# Altium schematic symbol library LSMD PCB.SCHLIB: 112 symbols (part 2 of 2)
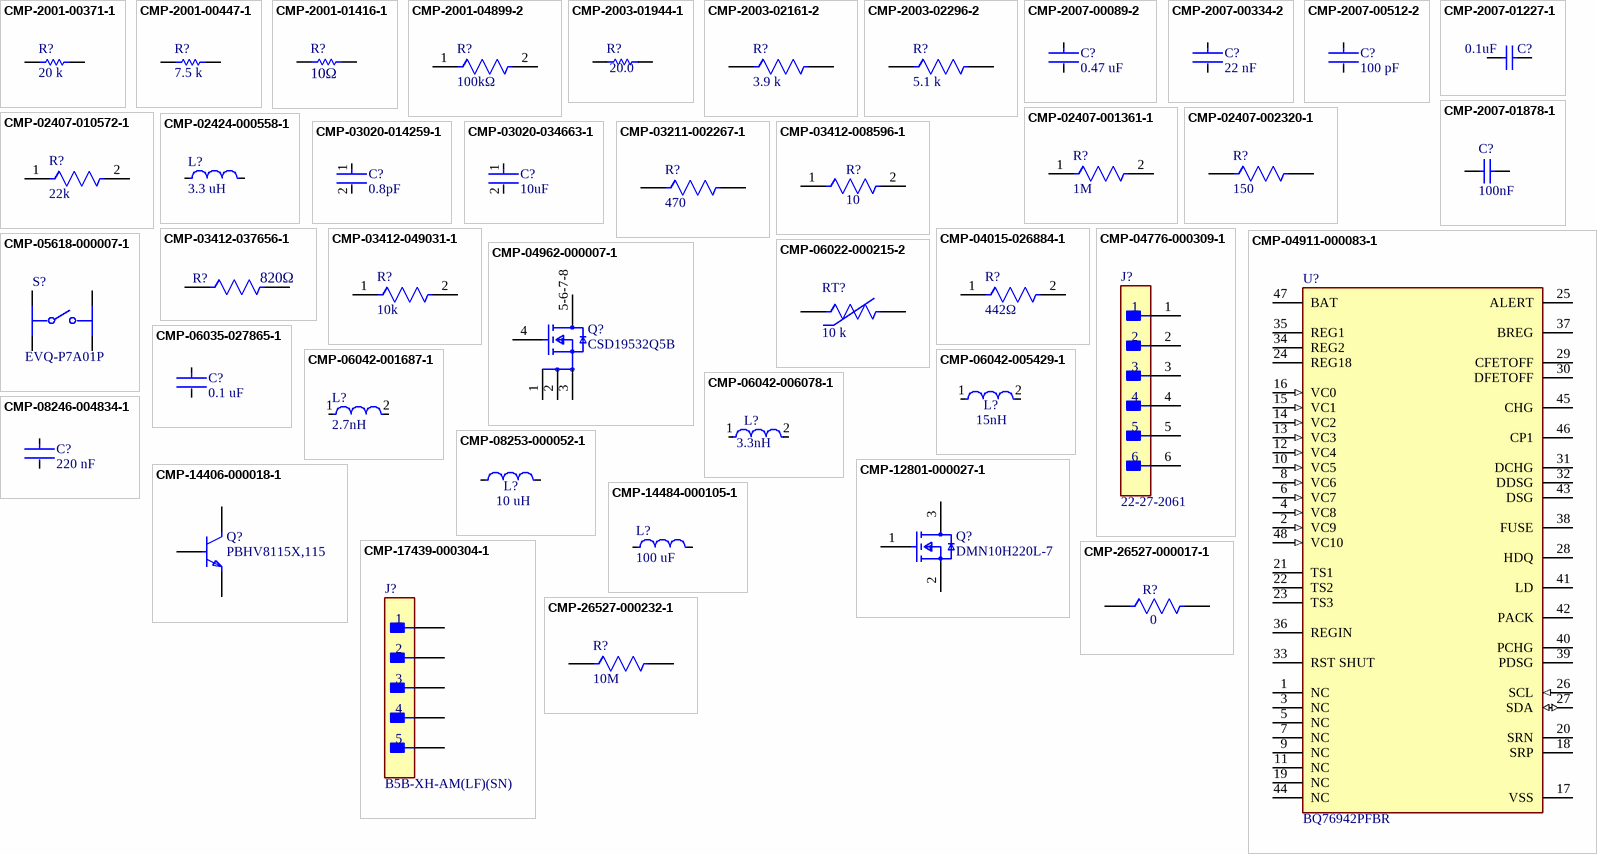
[diagram p3: symbols CMP-2001-00371-1 to CMP-26527-000232-1]

## CMP-05618-000007-1
designator S?, comment EVQ-P7A01P
SWITCH TACTILE SPST-NO 0.05A 12V; Manufacturer: Panasonic; Operating Force: 2.2N; Contact Resistance: 500mΩ; Contact Current Rating: 50mA; Electromechanical Life: 100000Cycles; Device Class L2: Switches; Lead Free: Yes; Mount: Surface Mount; Digikey Description: SWITCH TACTILE SPST-NO 0.05A 12V; Temperature Range High: +70°C; Device Class L3: Tactile Switches; Package: EVQ-P7A01P; Voltage Rating Dc: 12V; Octopart: https://octopart.com/evq-p7a01p-panasonic-29917075; ComponentLink2URL: https://industrial.panasonic.com/cdbs/www-data/pdf/ATK0000/ATK0000C378.pdf; Automotive: No; Device Class L1: Electromechanical; Mouser Description: SWITCH TACTILE SPST-NO 0.05A 12V; Temperature: -20°C to +70°C; Manufacturer Part Number: EVQ-P7A01P; ComponentLink2Description: Datasheet; RoHS: TRUE; Category: Switch; Temperature Range Low: -20°C; Throw Configuration: SPST-NO; Height: 1.55mm
footprint FP-EVQ-P7A01P-MFG
pins: 1, 1', 2, 2'

## CMP-06022-000215-2
designator RT?, comment 10 k
NTC Thermistor for Temperature Sensor, Automotive, 0402, 10kΩ, 1%, 0.1mA, 5V
footprint FP-NCP15-NCU15-0_05-IPC_A
footprint FP-NCP15-NCU15-0_05-MFG
footprint FP-NCP15-NCU15-0_05-IPC_C
footprint FP-NCP15-NCU15-0_05-IPC_B
pins: 1, 2

## CMP-06035-027865-1
designator C?, comment 0.1 uF
Multilayer Ceramic Capacitors MLCC - SMD/SMT 0805 0.1uF 10%, 100VDC,  X7R 15%
footprint FP-GCJ21B-0_3-MFG
footprint FP-GCJ21B-0_3-IPC_A
footprint FP-GCJ21B-0_3-IPC_B
footprint FP-GCJ21B-0_3-IPC_C
pins: 1, 2

## CMP-06042-001687-1
designator L?, comment 2.7nH
Wire Wound RF Inductor 2.7nH ±0.5nH 1900mA 0.02Ω 0805 (2015); Max DC Current: 1.9A; Test Frequency: 100MHz; DC Resistance (DCR): 20mR; Core Material: Non-Magnetic; Shielding: Unshielded; Self Resonant Frequency: 6GHz; Q Factor: 20; Min Operating Temperature: -40°C; Mount: Surface Mount; DC Current: 1.9A; Packaging: Tape and Reel; Case Code (Metric): 2012; Weight: 0.000317oz; Height: 1.7mm; Case/Package: 0805; Depth: 1.7mm; Current Rating: 1.9A; Length: 2mm; Radiation Hardening: No; Width: 0.059inch; Max Operating Temperature: 85°C; Case Code (Imperial): 0805; Height - Seated (Max): 0.07inch; Termination: SMD/SMT; Package Quantity: 2000; Inductance: 2.7nH; Resistor Type: Wirewound; Military Standard: Not
footprint FP-LQW2BHN_03-MFG
pins: 1, 2

## CMP-06042-005429-1
designator L?, comment 15nH
Wire Wound RF Inductor 15nH ±10% 1000mA 0.04Ω 0805 (2015); Current Rating: 1A; Q Factor: 40; Test Frequency: 100MHz; Core Material: Non-Magnetic; Self Resonant Frequency: 3.1GHz; Shielding: Unshielded; DC Resistance (DCR): 40mR; Mount: Surface Mount; Depth: 1.7mm; Case Code (Metric): 2015; Height - Seated (Max): 0.07inch; Max Operating Temperature: 85°C; Max DC Current: 1A; Weight: 0.000317oz; Length: 2mm; Radiation Hardening: No; DC Current: 1A; Military Standard: Not; Inductance: 15nH; Tolerance: 10%; Termination: SMD/SMT; Case/Package: 0805; Case Code (Imperial): 0805; Width: 0.059inch; Resistor Type: Wirewound; Height: 1.7mm; Min Operating Temperature: -40°C; Packaging: Tape and Reel; Package Quantity: 2000
footprint FP-LQW2BHN_03-MFG
pins: 1, 2

## CMP-06042-006078-1
designator L?, comment 3.3nH
Wire Wound RF Inductor 3.3nH ±0.5nH 1700mA 0.02Ω 0805 (2015); Test Frequency: 100MHz; DC Current: 1.7A; Shielding: Unshielded; Self Resonant Frequency: 6GHz; Core Material: Non-Magnetic; DC Resistance (DCR): 20mR; Q Factor: 10; Case Code (Metric): 2015; Max Operating Temperature: 85°C; Packaging: Tape and Reel; Radiation Hardening: No; Max DC Current: 1.7A; Height: 1.7mm; Resistor Type: Wirewound; Package Quantity: 2000; Case Code (Imperial): 0805; Military Standard: Not; Min Operating Temperature: -40°C; Termination: SMD/SMT; Length: 0.079inch; Current Rating: 1.7A; Inductance: 3.3nH; Case/Package: 0805; Width: 0.059inch; Weight: 0.000317oz; Height - Seated (Max): 0.07inch; Depth: 1.7mm; Mount: Surface Mount
footprint FP-LQW2BHN_03-MFG
pins: 1, 2

## CMP-08246-004834-1
designator C?, comment 220 nF
Multilayer Ceramic Capacitors 220nF ±10% 50V X7R SMD 0805; Dielectric: X7R; Weight: 0.000194oz; Termination: SMD/SMT; Resistor Type: Ceramic; Case Code (Metric): 2012; Number of Pins: 2; Capacitance: 220nF; REACH SVHC: No SVHC; Dielectric Material: Ceramic; Min Operating Temperature: -55°C; Depth: 1.25mm; Max Operating Temperature: 125°C; Voltage: 50V; Case Code (Imperial): 0805; Thickness: 0.057inch; Mount: Surface Mount; Voltage Rating (DC): 50V; Length: 2mm; Tolerance: 10%; Packaging: Tape and Reel; Package Quantity: 1; Case/Package: 0805; Radiation Hardening: No; Voltage Rating: 50V; Height: 1.25mm; Width: 0.049inch; Series: C; Construction: Flat; RoHS Compliant: Yes; Lead Free: Lead Free
footprint FP-C2012-125-0_2-IPC_C
footprint FP-C2012-125-0_2-IPC_B
footprint FP-C2012-125-0_2-MFG
footprint FP-C2012-125-0_2-IPC_A
pins: 1, 2

## CMP-08253-000052-1
designator L?, comment 10 uH
Shielded Multilayer Inductor 10uH ±20% 500mA 390mΩ SMD 0805; Self Resonant Frequency: 50MHz; Core Material: Ferrite; Test Frequency: 2MHz; Saturation Current: 110mA; DC Resistance (DCR): 390mR; Current Rating: 500mA; Case Code (Metric): 2012; Package Quantity: 1; RoHS Compliant: Yes; Tolerance: 20%; Height - Seated (Max): 0.057inch; Case/Package: 0805; Width: 0.049inch; Mount: Surface Mount; Max Operating Temperature: 125°C; Inductance: 10uH; Packaging: Tape and Reel; Length: 0.079inch; Min Operating Temperature: -55°C; Case Code (Imperial): 0805; Shielding: Shielded
footprint FP-MLZ2012-1_25-MFG
footprint FP-MLZ2012-1_25-IPC_C
footprint FP-MLZ2012-1_25-IPC_B
footprint FP-MLZ2012-1_25-IPC_A
pins: 1, 2

## CMP-12801-000027-1
designator Q?, comment DMN10H220L-7
MOSFET N-CH 100V 1.6A SOT-23; Manufacturer: Diodes Inc.; Typ Forward Diode Voltage: 0.7V; Max Junction Temp: +150°C; Reverse Recovery Charge: 9.8nC; Gate Charge At Vgs: 8.3nC @ 10V; Turn Off Delay Time: 7.9ns; Depletion Mode: False; Power Dissipation: 1.3W; Rthja Max: 177°C/W; Reverse Recovery Time: 17ns; Gate To Source Voltage: 16V; Drain To Source Resistance: 250mΩ; Threshold Vgs Max: 2.5V; Turn On Delay Time: 6.8ns; Threshold Vgs Min: 1V; Pulse Drain Current: 8A; Number Of Channels: 1; Max Forward Diode Voltage: 1.2V; Standoff Height: 0.013mm; Input Capacitace At Vds: 401pF @ 25V; Continuous Drain Current: 1.4A; Manufacturer Part Number: DMN10H220L-7; Device Class L2: Transistors; Automotive: No; Device Class L3: MOSFETs; Drain To Source Breakdown Voltage: 100V; Footprint Url: https://www.diodes.com/assets/Package-Files/SOT23.pdf; Package: SOT23; Lead Free: Yes; Temperature: -55°C to +150°C; Drain To Source Voltage: 100V; Device Class L1: Discrete Semiconductors; ComponentLink2URL: https://www.diodes.com/assets/Datasheets/DMN10H220L.pdf; Temperature Range High: +150°C; Temperature Range Low: -55°C; Category: Trans; Mouser Description: DMN10H220L Series 100 V 250 mOhm N-Channel Enhancement Mode Mosfet - SOT-23; RoHS: TRUE; ComponentLink2Description: Datasheet; Height: 1.1mm; Digikey Description: MOSFET N-CH 100V 1.6A SOT-23; Octopart: https://octopart.com/dmn10h220l-7-diodes+inc.-38898610; Number Of N Channels: 1
footprint FP-SOT23-MFG
footprint FP-SOT23-IPC_C
footprint FP-SOT23-IPC_B
footprint FP-SOT23-IPC_A
pins: 1 G, 2 S, 3 D

## CMP-14406-000018-1
designator Q?, comment PBHV8115X,115
TRANS NPN 150V 1A SOT89; Manufacturer: Nexperia; Number Of Npn: 1; Rise Time Tr: 565ns; Delay Time Td: 7ns; Rthja Max: 240K/W; Emitter Base Voltage: 6V; Hfe Testvce: 10V; Collector Emitter Saturation Voltage: 33mV; Hfe Min: 10; Max Junction Temp: +150°C; Gain Bandwidth Product: 30MHz; Automotive Grade: Grade 0; Power Dissipation: 0.52W; Collector Base Voltage: 400V; Fall Time Tf: 700ns; Category: Trans; Lead Free: Yes; Number Of Elements: 1; Ambient Temperature Range Low: -55°C; Height: 1.6mm; Temperature: to +150°C; Max Collector Current: 1A; Manufacturer Part Number: PBHV8115X,115; Device Class L3: BJTs; ComponentLink2URL: https://assets.nexperia.com/documents/data-sheet/PBHV8115X.pdf; Collector Emitter Voltage: 150V; Device Class L1: Discrete Semiconductors; Package: SOT89; Storage Time Ts: 1530ns; Ambient Temperature Range High: +150°C; Digikey Description: TRANS NPN 150V 1A SOT89; ComponentLink2Description: Datasheet; Footprint Url: https://assets.nexperia.com/documents/outline-drawing/SOT89.pdf; Device Class L2: Transistors; RoHS: TRUE; Automotive: Yes; Temperature Range High: +150°C; Octopart: https://octopart.com/pbhv8115x%2C115-nexperia-78740688; Hfe Testic: 1A
footprint FP-SOT89-MFG
pins: 1 E, 2 C, 3 B

## CMP-14484-000105-1
designator L?, comment 100 uF
SMD Inductors 100uH ±10% 0.34A 1.82Ω 1210; Shielding: Unshielded; Max DC Current: 340mA; Saturation Current: 270mA; Self Resonant Frequency: 6MHz; Test Frequency: 100kHz; DC Resistance (DCR): 1.82R; Core Material: Ferrite; Width: 0.098inch; Tolerance: 10%; Max Operating Temperature: 105°C; Height - Seated (Max): 0.106inch; Inductance Tolerance: 10%; Height: 2.5mm; Case/Package: 1210; Min Operating Temperature: -40°C; Radiation Hardening: No; Inductance: 100uH; DC Current: 340mA; Current Rating: 340mA; Halogen Free: Halogen Free; Package Quantity: 1; RoHS Compliant: Yes; Case Code (Imperial): 1210; Packaging: Tape and Reel; Termination: SMD/SMT; Series: CB; Length: 0.126inch; Resistor Type: Wirewound; Mount: Surface Mount; Military Standard: Not; Depth: 2.7mm; Lead Free: Lead Free; Case Code (Metric): 3225
footprint FP-CB3225-IPC_A
footprint FP-CB3225-MFG
footprint FP-CB3225-IPC_B
footprint FP-CB3225-IPC_C
pins: 1, 2

## CMP-17439-000304-1
designator J?, comment B5B-XH-AM(LF)(SN)
CONN HEADER VERT 5POS 2.5MM; Mated Stacking Heights: 9.8mm; Voltage Rating: 250V; Max Current Rating: 3A; Number of Positions: 5; Contact Resistance: 20mR; Depth: 5.75mm; Connector Type: Header; Color: Green; Insulation Material: Nylon; Contact Plating: Copper; Length: 14.9mm; Fastening Type: Detent; Contact Material: Brass; Number of Rows: 1; Contact Type: Male Pin; Housing Material: Polyamide; Housing Color: White; Lead Free: Lead Free; Max Voltage Rating (AC): 250V; Mount: Through Hole; Contact Shape: Square; Min Operating Temperature: -25°C; Packaging: Bulk; Orientation: Straight; Insulation Color: Natural; Series: XH; Flammability Rating: UL94 V-0; Contact Finish - Mating: TIN; Max Operating Temperature: 85°C; Termination: Solder; Pitch: 2.5mm
footprint FP-B5B-XH-AM_LF_SN-MFG
pins: 1, 2, 3, 4, 5

## CMP-26527-000017-1
designator R?, comment 0
RES 0 OHM JUMPER 1/8W 0805; Power Rating: 125mW; Resistance: 0mR; Depth: 1.25mm; Length: 2mm; Military Standard: Not; Width: 0.049inch; Case Code (Imperial): 0805; Number of Terminations: 2; Mount: Surface Mount; Contact Plating: Tin; Height: 0.026inch; Case/Package: 0805; Min Operating Temperature: -55°C; Composition: Thick Film; Max Operating Temperature: 155°C; Packaging: Tape and Reel; Features: Automotive AEC-Q200; Max Power Dissipation: 125mW; Radiation Hardening: No; Lead Free: Lead Free; Case Code (Metric): 2012
footprint FP-RMCF0805-MFG
footprint FP-RMCF0805-IPC_C
footprint FP-RMCF0805-IPC_B
footprint FP-RMCF0805-IPC_A
pins: 1, 2

## CMP-26527-000232-1
designator R?, comment 10M
10MΩ ±5% 0.125W 0805 Thick Film Chip Resistor AEC-Q200 compliant; Power Rating: 125mW; Temperature Coefficient: 200ppm/°C; Resistance: 10MR; Size Code: 0805; Resistor Type: Thick Film; RoHS Compliant: Yes; Max Operating Temperature: 155°C; Width: 0.049inch; Case/Package: 0805; Military Standard: Not; Max Power Dissipation: 125mW; Length: 2mm; Min Operating Temperature: -55°C; Tolerance: 5%; Height: 0.026inch; Depth: 1.25mm; Construction: Rectangular; Mount: Surface Mount; Radiation Hardening: No; Contact Plating: Tin; Case Code (Metric): 2012; Features: Automotive AEC-Q200; Case Code (Imperial): 0805; Packaging: Tape and Reel; Number of Terminations: 2; Lead Free: Lead Free; Series: RMCF
footprint FP-RMCF0805-IPC_A
footprint FP-RMCF0805-IPC_C
footprint FP-RMCF0805-MFG
footprint FP-RMCF0805-IPC_B
pins: 1, 2

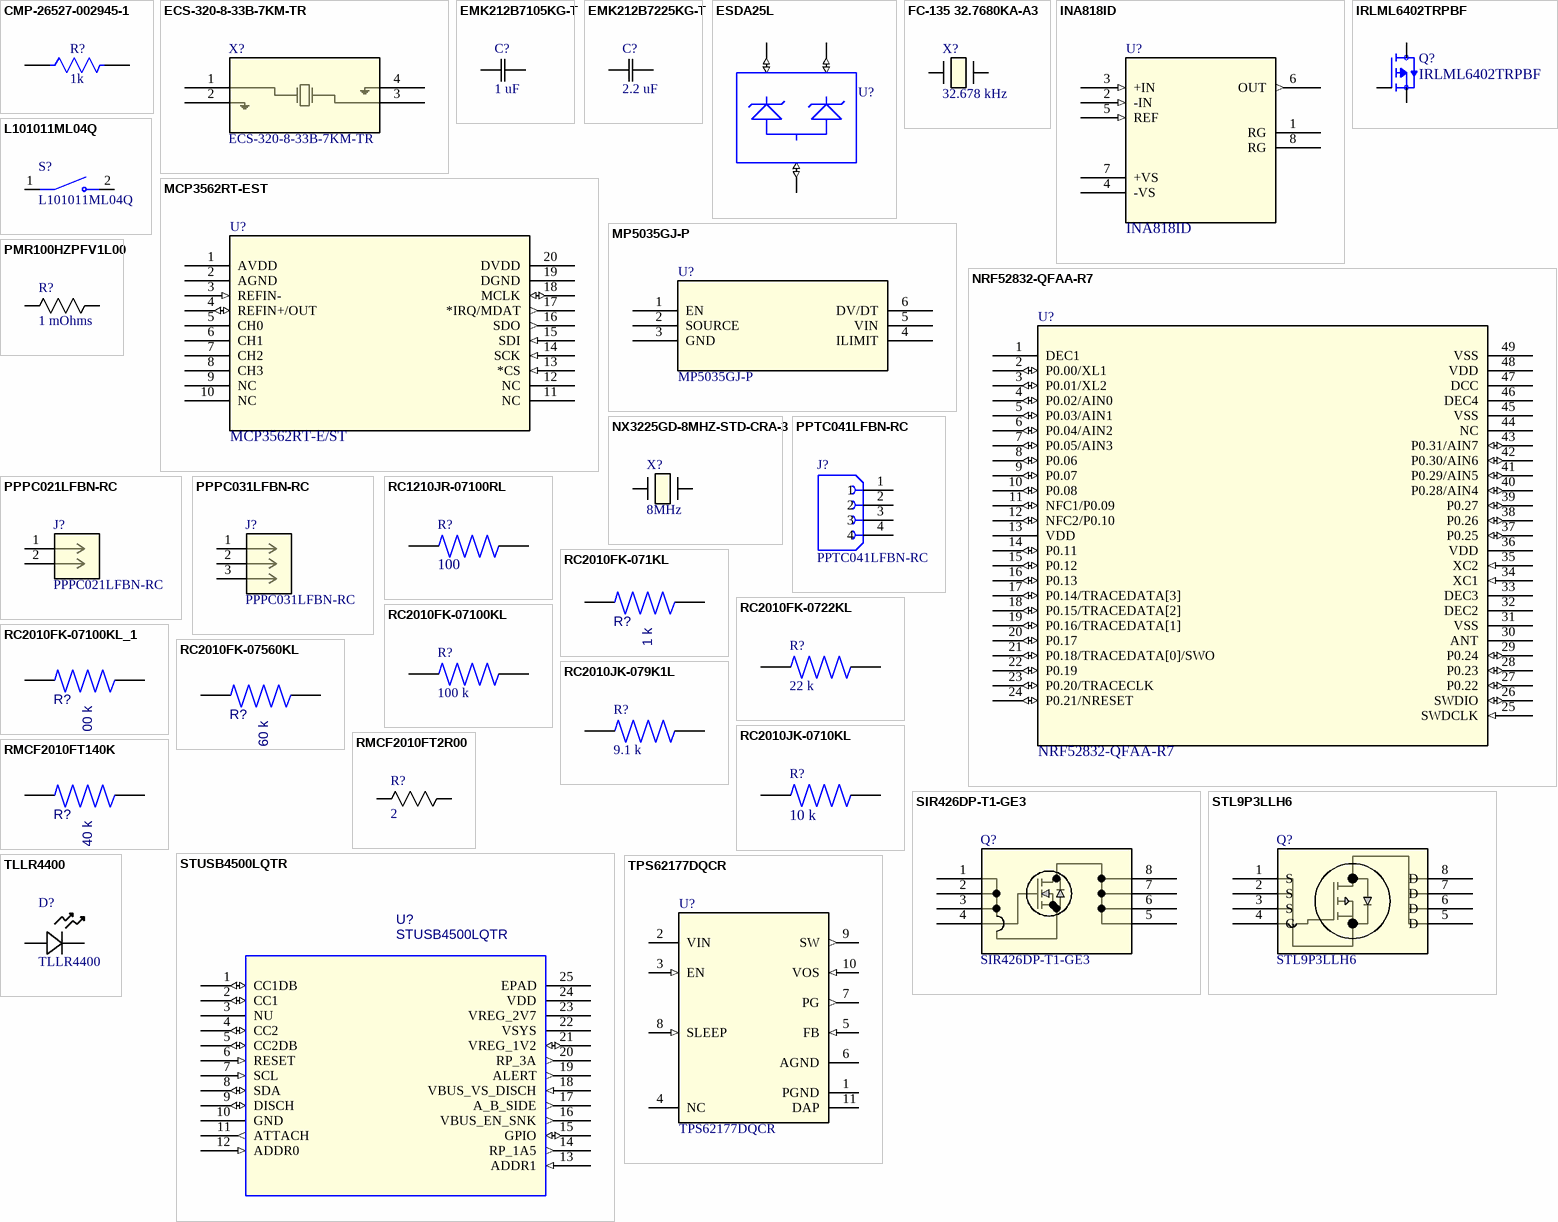
[diagram p2: symbols CMP-26527-002945-1 to TPS62177DQCR]

## CMP-26527-002945-1
designator R?, comment 1k
1kΩ ±1% 0.125W 0805 Thick Film Chip Resistor AEC-Q200 compliant; Resistance: 1kR; Max Power Dissipation: 125mW; Temperature Coefficient: 100ppm/°C; Series: RMCF; Packaging: Tape and Reel; Depth: 1.25mm; Tolerance: 1%; Contact Plating: Tin; Height: 0.026inch; Length: 2mm; Resistor Type: Thick Film; Lead Free: Lead Free; Width: 0.049inch; Military Standard: Not; RoHS Compliant: Yes; Case/Package: 0805; Min Operating Temperature: -55°C; Mount: Surface Mount; Max Operating Temperature: 155°C; Construction: Rectangular; Features: Automotive AEC-Q200; Number of Terminations: 2; Radiation Hardening: No
footprint FP-RMCF0805-MFG
footprint FP-RMCF0805-IPC_A
footprint FP-RMCF0805-IPC_C
footprint FP-RMCF0805-IPC_B
pins: 1, 2

## ECS-320-8-33B-7KM-TR
designator X?
No Description Available; Manufacturer_Name: ECS International; Copyright: Copyright (C) 2026 Ultra Librarian. All rights reserved.; Manufacturer_Part_Number: ECS-320-8-33B-7KM-TR; RefDes: RefDes; Type: Type; Supplier 1: Avnet; Supplier Part Number 1: ECS-320-8-33B-7KM-TR
footprint ECS-33B_ECS
pins: 1, 2, 3, 4

## EMK212B7105KG-T
designator C?, comment 1 uF
No Description Available; Manufacturer_Name: TAIYO YUDEN; Manufacturer_Part_Number: EMK212B7105KG-T; Copyright: Copyright (C) 2026 Ultra Librarian. All rights reserved.; Supplier 1: DigiKey; Supplier Part Number 1: 587-1283-1-ND
footprint cap_EMK212B7105KG-T_TAY
footprint CAPC2012X135N
pins: 1, 2

## EMK212B7225KG-T
designator C?, comment 2.2 uF
Description; Manufacturer_Name: TAIYO YUDEN; Manufacturer_Part_Number: EMK212B7225KG-T; Copyright: Copyright (C) 2025 Ultra Librarian. All rights reserved.; Supplier 1: Future Electronics; Supplier Part Number 1: 8043977
footprint cap_EMK212B7105KG-T_TAY
footprint Model Name (Footprint not found)
footprint CAPC2012X135N
pins: 1, 2

## ESDA25L
designator U?  (value not drawn)
- Clamp - Ipp Tvs Diode Surface Mount SOT-23-3; PCB Footprint: SOT-23-3L; MF: STMicroelectronics; OriginalSymbolOrigin: (-40000,30000); SnapEDA_Link: https://www.snapeda.com/parts/ESDA25L/STMicroelectronics/view-part/?ref=snap; Package: SOT-23-3 STMicroelectronics; MP: ESDA25L; Check_prices: https://www.snapeda.com/parts/ESDA25L/STMicroelectronics/view-part/?ref=eda; Value: ESDA25L; Supplier 1: Avnet; Supplier Part Number 1: ESDA25L
footprint SOT_A25L_STM
pins: 1 (io), 2 (io), 3 (io)

## FC-135 32.7680KA-A3
designator X?, comment 32.678 kHz
SMD Crystal 32.768KHz-12.5pF-20ppm-2P-3.2*1.5*0.9mm; Manufacturer_Name: Epson; Manufacturer_Part_Number: FC-135 32.7680KA-A3; Copyright: Copyright (C) 2025 Ultra Librarian. All rights reserved.; Supplier 1: Arrow Electronics; Supplier Part Number 1: FC-135 32.7680KA-A3
footprint XTAL_FC-135R_EPS
pins: 1, 2

## INA818ID
designator U?
Low power (350-ÂµA), precision instrumentation amp with Â±60-V overvoltage protection (gain pins 1, 8) 8-SOIC -40 to 125; Manufacturer_Name: Texas Instruments; Copyright: Copyright (C) 2025 Ultra Librarian. All rights reserved.; Manufacturer_Part_Number: INA818ID; RefDes: RefDes; Type: Type; Supplier 1: DigiKey; Supplier Part Number 1: 296-INA818ID-ND
footprint SOIC-8_TEX
pins: 1 RG, 2 -IN (in), 3 +IN (in), 4 -VS, 5 REF (in), 6 OUT (out), 7 +VS, 8 RG

## IRLML6402TRPBF
designator Q?
P-Channel 20 V 3.7A (Ta) 1.3W (Ta) Surface Mount Micro3Ã¢â€žÂ¢ /SOT-23; MF: Infineon; SnapEDA_Link: https://www.snapeda.com/parts/IRLML6402TRPBF/Infineon/view-part/?ref=snap; Package: SOT-23-3 ON Semiconductor; Value: *; MP: IRLML6402TRPBF; Check_prices: https://www.snapeda.com/parts/IRLML6402TRPBF/Infineon/view-part/?ref=eda; Supplier 1: Arrow Electronics; Supplier Part Number 1: AO3419
footprint SOT95P237X112-3N
pins: 1 G, 2 S, 3 D

## L101011ML04Q
designator S?
Switch Slide ON OFF SPST Side Slide 4A 250VAC 125VDC PC Pins Thru-Hole Bulk; MF: C&K; SnapEDA_Link: https://www.snapeda.com/parts/L101011ML04Q/C%2526K/view-part/?ref=snap; Package: None; Value: *; MP: L101011ML04Q; Check_prices: https://www.snapeda.com/parts/L101011ML04Q/C%2526K/view-part/?ref=eda
footprint SW_L101011ML04Q
pins: 1 COM, 2 NO

## MCP3562RT-EST
designator U?, comment MCP3562RT-E/ST
Description; Manufacturer_Name: Microchip; Copyright: Copyright (C) 2025 Ultra Librarian. All rights reserved.; Manufacturer_Part_Number: MCP3562RT-E/ST; RefDes: RefDes; Type: Type; Supplier 1: DigiKey; Supplier Part Number 1: 150-MCP3562RT-E/STCT-ND
footprint TSSOP20_ST_MCH
pins: 1 AVDD (power), 2 AGND (power), 3 REFIN- (in), 4 REFIN+/OUT (io), 5 CH0, 6 CH1, 7 CH2, 8 CH3, 9 NC, 10 NC, 11 NC, 12 NC, 13 *CS (in), 14 SCK (in), 15 SDI (in), 16 SDO (out), 17 *IRQ/MDAT (out), 18 MCLK (io), 19 DGND (power), 20 DVDD (power)

## MP5035GJ-P
designator U?
2.9V to 22V 50mA to 2A Configurable Current-Limit Switch in a TSOT23-6 Package; Manufacturer_Name: Monolithic Power Systems; Copyright: Copyright (C) 2026 Ultra Librarian. All rights reserved.; Manufacturer_Part_Number: MP5035GJ-P; Datasheet: https://www.monolithicpower.com/en/documentview/productdocument/index/version/2/document_type/Datasheet/lang/en/sku/MP5035GJ; RefDes: RefDes; Type: Type; Supplier 1: DigiKey; Supplier Part Number 1: 1589-MP5035GJ-PCT-ND
footprint TSOT23-6_MP5035_MNP
pins: 1 EN, 2 SOURCE (power), 3 GND (power), 4 ILIMIT, 5 VIN (power), 6 DV/DT

## NRF52832-QFAA-R7
designator U?
Description; Manufacturer_Name: Nordic Semiconductor; Copyright: Copyright (C) 2025 Ultra Librarian. All rights reserved.; Manufacturer_Part_Number: NRF52832-QFAA-R7; RefDes: RefDes; Type: Type; Supplier 1: DigiKey; Supplier Part Number 1: 4823-NRF52832-QFAA-R7CT-ND
footprint QFN48_6X6_QF_NOR
pins: 1 DEC1 (power), 2 P0.00/XL1 (io), 3 P0.01/XL2 (io), 4 P0.02/AIN0 (io), 5 P0.03/AIN1 (io), 6 P0.04/AIN2 (io), 7 P0.05/AIN3 (io), 8 P0.06 (io), 9 P0.07 (io), 10 P0.08 (io), 11 NFC1/P0.09 (io), 12 NFC2/P0.10 (io), 13 VDD (power), 14 P0.11 (io), 15 P0.12 (io), 16 P0.13 (io), 17 P0.14/TRACEDATA[3] (io), 18 P0.15/TRACEDATA[2] (io), 19 P0.16/TRACEDATA[1] (io), 20 P0.17 (io), 21 P0.18/TRACEDATA[0]/SWO (io), 22 P0.19 (io), 23 P0.20/TRACECLK (io), 24 P0.21/NRESET (io), 25 SWDCLK (in), 26 SWDIO (io), 27 P0.22 (io), 28 P0.23 (io), 29 P0.24 (io), 30 ANT, 31 VSS (power), 32 DEC2 (power), 33 DEC3 (power), 34 XC1 (in), 35 XC2 (in), 36 VDD (power), 37 P0.25 (io), 38 P0.26 (io), 39 P0.27 (io), 40 P0.28/AIN4 (io), 41 P0.29/AIN5 (io), 42 P0.30/AIN6 (io), 43 P0.31/AIN7 (io), 44 NC, 45 VSS (power), 46 DEC4 (power), 47 DCC (power), 48 VDD (power), 49 VSS (power)

## NX3225GD-8MHZ-STD-CRA-3
designator X?, comment 8MHz
Description; Manufacturer_Name: NDK; Manufacturer_Part_Number: NX3225GD-8MHZ-STD-CRA-3; Copyright: Copyright (C) 2025 Ultra Librarian. All rights reserved.
footprint XTAL_NX3225GD-8MHZ-STD-CRA-3_NDK
pins: 1, 2

## PMR100HZPFV1L00
designator R?, comment 1 mOhms
No Description Available; Manufacturer_Name: ROHM Semiconductor; Manufacturer_Part_Number: PMR100HZPFV1L00; Copyright: Copyright (C) 2026 Ultra Librarian. All rights reserved.
footprint RES_R2512_ROM
pins: 1, 2

## PPPC021LFBN-RC
designator J?
Description; Manufacturer_Name: Sullins; Copyright: Copyright (C) 2025 Ultra Librarian. All rights reserved.; Manufacturer_Part_Number: PPPC021LFBN-RC; RefDes: RefDes; Type: Type; Supplier 1: DigiKey; Supplier Part Number 1: S7035-ND
footprint CONN_PPPC021_SUL
footprint Model Name (Footprint not found)
pins: 1, 2

## PPPC031LFBN-RC
designator J?
Description; Manufacturer_Name: Sullins; Copyright: Copyright (C) 2025 Ultra Librarian. All rights reserved.; Manufacturer_Part_Number: PPPC031LFBN-RC; RefDes: RefDes; Type: Type; Supplier 1: DigiKey; Supplier Part Number 1: S7036-ND
footprint CONN_PPPC031LFBN-RC_SUL
pins: 1, 2, 3

## PPTC041LFBN-RC
designator J?
4 Position Header Connector 0.100 (2.54mm) Through Hole Tin; MF: Sullins Connector; SnapEDA_Link: https://www.snapeda.com/parts/PPTC041LFBN-RC/Sullins/view-part/?ref=snap; Package: None; Value: *; MP: PPTC041LFBN-RC; Check_prices: https://www.snapeda.com/parts/PPTC041LFBN-RC/Sullins/view-part/?ref=eda; Supplier 1: DigiKey; Supplier Part Number 1: S7002-ND
footprint SULLINS_PPTC041LFBN-RC
pins: 1, 2, 3, 4

## RC1210JR-07100RL
designator R?, comment 100
100 Ohms Â±5% 0.5W, 1/2W Chip Resistor 1210 (3225 Metric) Moisture Resistant Thick Film; MF: Yageo; MP: RC1210JR-07100RL; SnapEDA_Link: https://www.snapeda.com/parts/RC1210JR-07100RL/Yageo/view-part/?ref=snap; Package: 3126 Yageo; Value: *; Check_prices: https://www.snapeda.com/parts/RC1210JR-07100RL/Yageo/view-part/?ref=eda; Supplier 1: Avnet; Supplier Part Number 1: RC1210JR-07100RL
footprint RESC3126X65N
pins: 1, 2

## RC2010FK-071KL
designator R?, comment 1 k
Part Reference: R51; Manufacturer Name: Yageo; Manufacturer Part Number: RC2010FK-071KL; OriginalSymbolOrigin: (-20000,10000); PCB Footprint: RESC5025X65N; Value: 1 k; Part Number: RC2010FK-071KL; Supplier 1: DigiKey; Supplier Part Number 1: YAG3379CT-ND
footprint RESC5025X65N
pins: 1, 2

## RC2010FK-0722KL
designator R?, comment 22 k
MP: RC2010FK-0722KL; Package: None; Price: None; Value: *; Availability: Unavailable; Supplier 1: Future Electronics; Supplier Part Number 1: 5022018
footprint RESC5025X65N
pins: 1, 2

## RC2010FK-07100KL
designator R?, comment 100 k
RES, 100K, 1%, 0.75W, 2010, THICK FILM; Resistor Case Style:2010 [5025 Metric]; Resistance:100kohm; Product Range:RC Series; Voltage Rating:200V; Resistor Element Material:Thick Film; Power Rating:750mW; Resistance Tolerance:Â± 1%; Temperature Coefficient; MF: Yageo Corporation; MP: RC2010FK07100KL; SnapEDA_Link: https://www.snapeda.com/parts/RC2010FK07100KL/Yageo/view-part/?ref=snap; Package: 2010-2 YAGEO; Value: *; Check_prices: https://www.snapeda.com/parts/RC2010FK07100KL/Yageo/view-part/?ref=eda; Supplier 1: Newark; Supplier Part Number 1: RC2010FK-07100KL
footprint RESC5025X65N
pins: 1, 2

## RC2010FK-07100KL_1
designator R?, comment 100 k
Part Reference: R54; Manufacturer Name: Yageo; Manufacturer Part Number: RC2010FK-07100KL; OriginalSymbolOrigin: (-20000,10000); PCB Footprint: RESC5025X65N; Value: 100 k; Part Number: RC2010FK-07100KL; Supplier 1: Newark; Supplier Part Number 1: RC2010FK-07100KL
footprint RESC5025X65N
pins: 1, 2

## RC2010FK-07560KL
designator R?, comment 560 k
Part Reference: R23; Manufacturer Name: Yageo; Manufacturer Part Number: RC2010FK-07560KL; OriginalSymbolOrigin: (-20000,10000); PCB Footprint: RESC5025X65N; Value: 560 k; Part Number: RC2010FK-07560KL; Supplier 1: DigiKey; Supplier Part Number 1: 13-RC2010FK-07560KLCT-ND
footprint RESC5025X65N
pins: 1, 2

## RC2010JK-079K1L
designator R?, comment 9.1 k
RES SMD 9.1K OHM 5% 3/4W 2010; MP: RC2010JK-079K1L; Package: None; Price: None; Value: *; Availability: Unavailable; Supplier 1: Future Electronics; Supplier Part Number 1: 6184260
footprint RESC5025X65N
pins: 1, 2

## RC2010JK-0710KL
designator R?, comment 10 k
MP: RC2010JK-0710KL; Package: None; Price: None; Value: *; Availability: Unavailable; Supplier 1: Avnet; Supplier Part Number 1: 49AK3933
footprint RESC5025X65N
pins: 1, 2

## RMCF2010FT2R00
designator R?, comment 2
No Description Available; Manufacturer_Name: Stackpole International; Manufacturer_Part_Number: RMCF2010FT2R00; Copyright: Copyright (C) 2026 Ultra Librarian. All rights reserved.; Supplier 1: Arrow Electronics; Supplier Part Number 1: RMCF2010FT2R00
footprint RES_RMCF2010_STP
pins: 1, 2

## RMCF2010FT140K
designator R?, comment 140 k
Part Reference: R20; Manufacturer Name: Stackpole Electronics Inc; Manufacturer Part Number: RMCF2010FT140K; OriginalSymbolOrigin: (-20000,10000); PCB Footprint: RESC5025X70N; Value: 140 k; Part Number: RMCF2010FT140K; Supplier 1: DigiKey; Supplier Part Number 1: 738-RMCF2010FT140KCT-ND
footprint RES_RMCF2010_STP
pins: 1, 2

## SIR426DP-T1-GE3
designator Q?
N-CHANNEL 40-V (D-S) MOSFET; Manufacturer_Name: Vishay; Copyright: Copyright (C) 2025 Ultra Librarian. All rights reserved.; Manufacturer_Part_Number: SIR426DP-T1-GE3; RefDes: RefDes; Type: Type
footprint POWERPAK_SO-8_SINGLE
pins: 1 S, 2 S, 3 S, 4 G, 5 D, 6 D, 7 D, 8 D

## STL9P3LLH6
designator Q?
P-channel -30 V, 12 mOhm typ., -9 A STripFET H6 Power MOSFET in a PowerFLAT 3.3 x 3.3 package; Manufacturer_Name: STMicroelectronics; Copyright: Copyright (C) 2025 Ultra Librarian. All rights reserved.; Manufacturer_Part_Number: STL9P3LLH6; RefDes: RefDes; Type: Type
footprint POWERFLAT_3P3X3P3_STM
pins: 1 S, 2 S, 3 S, 4 G, 5 D, 6 D, 7 D, 8 D

## STUSB4500LQTR
designator U?
Standalone USB Type-C port controller for power sinking devices; Manufacturer_Name: STMicroelectronics; Part Reference: U9; PCB Footprint: QFN24_STUSB4500_STM; Datasheet: https://www.st.com/resource/en/datasheet/stusb4500l.pdf; Manufacturer_Part_Number: STUSB4500LQTR; Copyright: Copyright (C) 2025 Ultra Librarian. All rights reserved.; Value: STUSB4500LQTR; Part Number: STUSB4500LQTR; Manufacturer Part Number: STUSB4500LQTR; Manufacturer Name: STMicroelectronics; Supplier 1: Arrow Electronics; Supplier Part Number 1: STUSB4500LQTR
footprint QFN24_STUSB4500_STM
pins: 1 CC1DB (io), 2 CC1 (io), 3 NU (power), 4 CC2 (io), 5 CC2DB (io), 6 RESET (in), 7 SCL (in), 8 SDA (io), 9 DISCH (io), 10 GND (power), 11 ATTACH (out), 12 ADDR0 (in), 13 ADDR1 (in), 14 RP_1A5 (out), 15 GPIO (io), 16 VBUS_EN_SNK (out), 17 A_B_SIDE (out), 18 VBUS_VS_DISCH (in), 19 ALERT (out), 20 RP_3A (out), 21 VREG_1V2 (io), 22 VSYS (power), 23 VREG_2V7 (power), 24 VDD (power), 25 EPAD (power)

## TLLR4400
designator D?
3MM LED RED LC TINT. DIFF-e3; Manufacturer_Name: Vishay; Copyright: Copyright (C) 2025 Ultra Librarian. All rights reserved.; Manufacturer_Part_Number: TLLR4400; Supplier 1: Avnet; Supplier Part Number 1: 33C1369
footprint TLL_Series_VIS
pins: 1, 2

## TPS62177DQCR
designator U?
28V, 0.5A Step-Down Converter with SNOOZE Mode 10-WSON -40 to 85; Manufacturer_Name: Texas Instruments; TYPE: TYPE; RefDes: RefDes; Copyright: Copyright (C) 2026 Ultra Librarian. All rights reserved.; Manufacturer_Part_Number: TPS62177DQCR; Supplier 1: Arrow Electronics; Supplier Part Number 1: TPS62177DQCR
footprint DQC0010A
pins: 1 PGND (power), 2 VIN (power), 3 EN (in), 4 NC, 5 FB (in), 6 AGND (power), 7 PG (out), 8 SLEEP (in), 9 SW (out), 10 VOS (in), 11 DAP (power)